# EAGLE library part SMBTB0.5 (library connector)
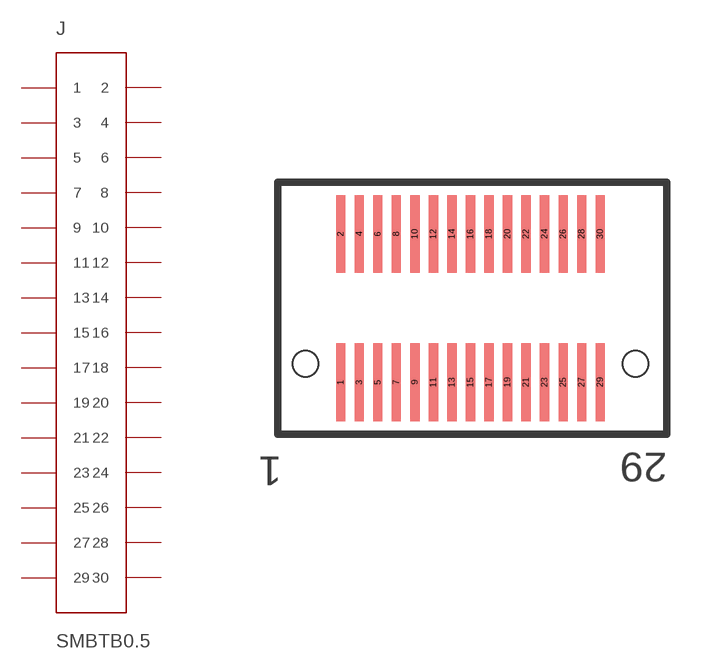
[diagram p12: symbol with the pads of SMBTB0.5_30; footprint SMBTB0.5_30]

Designator prefix J

## SMBTB0.5-30  [SMBTB0.5_30]
1  1
2  2
3  3
4  4
5  5
6  6
7  7
8  8
9  9
10  10
11  11
12  12
13  13
14  14
15  15
16  16
17  17
18  18
19  19
20  20
21  21
22  22
23  23
24  24
25  25
26  26
27  27
28  28
29  29
30  30

## Footprint SMBTB0.5_30 (pad centres in mm)
smd 0.25 x 2.1: 1 0,-2; 2 0,2; 3 0.5,-2; 4 0.5,2; 5 1,-2; 6 1,2; 7 1.5,-2; 8 1.5,2; 9 2,-2; 10 2,2; 11 2.5,-2; 12 2.5,2; 13 3,-2; 14 3,2; 15 3.5,-2; 16 3.5,2; 17 4,-2; 18 4,2; 19 4.5,-2; 20 4.5,2; 21 5,-2; 22 5,2; 23 5.5,-2; 24 5.5,2; 25 6,-2; 26 6,2; 27 6.5,-2; 28 6.5,2; 29 7,-2; 30 7,2
hole 0.7 at 7.95,-1.5
hole 0.7 at -0.95,-1.5